# EAGLE library part SN74CBTLV3251DBQR (library SamacSys_Parts)
Low-Voltage 1-Of-8 FET Multiplexer/Demultiplexer Source: Datasheet <http://www.ti.com/lit/gpn/sn74cbtlv3251>
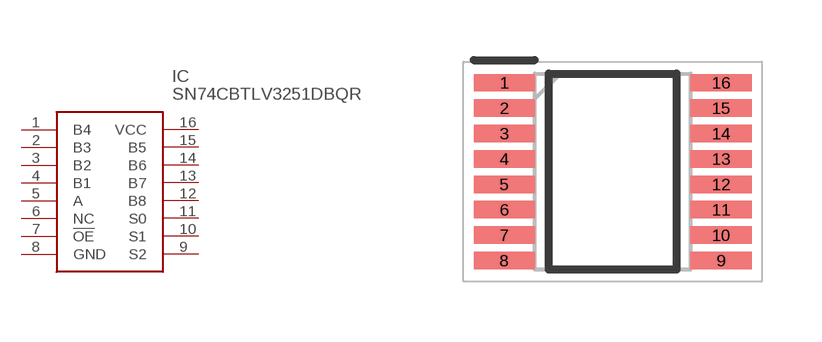
[diagram p3: symbol with the pads of SOP64P600X175-16N; footprint SOP64P600X175-16N]

Designator prefix IC

## SN74CBTLV3251DBQR (DESCRIPTION: Low-Voltage 1-Of-8 FET Multiplexer/Demultiplexer; HEIGHT: 1.75mm; MANUFACTURER_NAME: Texas Instruments; MANUFACTURER_PART_NUMBER: SN74CBTLV3251DBQR; MOUSER_PART_NUMBER: 595-SNCBTLV3251DBQR; MOUSER_PRICE-STOCK: https://www.mouser.co.uk/ProductDetail/Texas-Instruments/SN74CBTLV3251DBQR?qs=Tv815z3GeNQn9oMj2sTAmg%3D%3D)  [SOP64P600X175-16N]
1  B4
2  B3
3  B2
4  B1
5  A
6  NC  nc
7  !OE
8  GND
9  S2
10  S1
11  S0
12  B8
13  B7
14  B6
15  B5
16  VCC

## Footprint SOP64P600X175-16N (pad centres in mm)
SN74CBTLV3251DBQR
smd 1.528 x 0.435: 1 -2.711,2.222; 2 -2.711,1.588; 3 -2.711,0.952; 4 -2.711,0.318; 5 -2.711,-0.318; 6 -2.711,-0.952; 7 -2.711,-1.588; 8 -2.711,-2.222; 9 2.711,-2.222; 10 2.711,-1.588; 11 2.711,-0.952; 12 2.711,-0.318; 13 2.711,0.318; 14 2.711,0.952; 15 2.711,1.588; 16 2.711,2.222